# Altium footprint library DIN41612_32_2row_right_angle_father.PcbLib: 1 footprints
Each footprint in its own frame and in the unit in brackets; x right, y up, seen from the top. Pads: shape width x height; smd on the part's side, far side on the other; paste and mask are expansions set on the pad; w line width, h text height; cw(c..) or ccw(c..) is an arc to the next point about the centre after c.
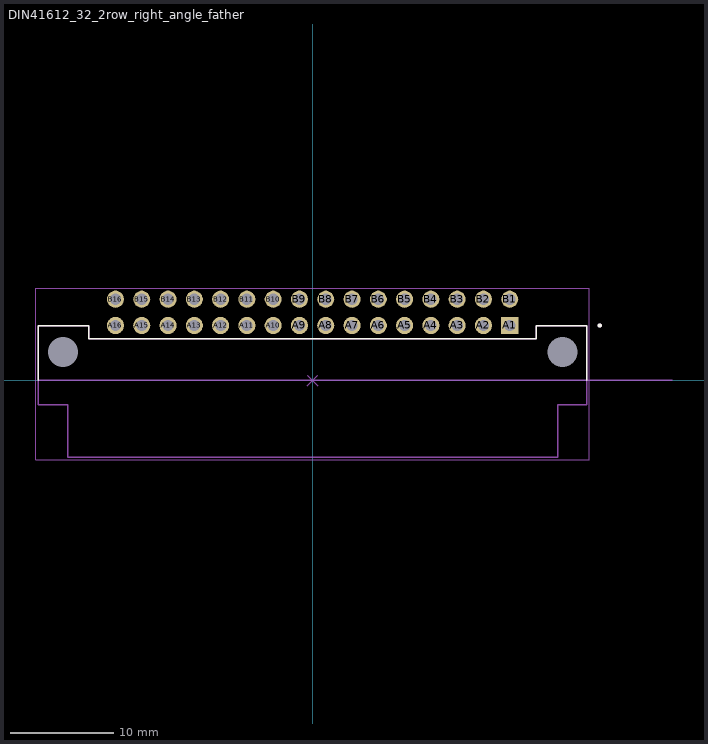
[diagram p0: the footprint, top view; thin cyan lines are the x and y axes]

## DIN41612_32_2row_right_angle_father [mm]
pads (34):
  rect 1.65x1.65 / inner round 1.65 / far side rect 1.65x1.65 hole 1.1: A1(19.05,5.3)
  round 1.65 hole 1.1: A2(16.51,5.3) A3(13.97,5.3) A4(11.43,5.3) A5(8.89,5.3) A6(6.35,5.3) A7(3.81,5.3) A8(1.27,5.3) A9(-1.27,5.3) A10(-3.81,5.3) A11(-6.35,5.3) A12(-8.89,5.3) A13(-11.43,5.3) A14(-13.97,5.3) A15(-16.51,5.3) A16(-19.05,5.3) B1(19.05,7.84) B2(16.51,7.84) B3(13.97,7.84) B4(11.43,7.84) B5(8.89,7.84) B6(6.35,7.84) B7(3.81,7.84) B8(1.27,7.84) B9(-1.27,7.84) B10(-3.81,7.84) B11(-6.35,7.84) B12(-8.89,7.84) B13(-11.43,7.84) B14(-13.97,7.84) B15(-16.51,7.84) B16(-19.05,7.84)
  round 0 hole 2.9 unplated: ""(-24.13,2.76) ""(24.13,2.76)
Top Overlay:
  circle w0.2: c27.75,5.3 r0.1
  lines w0.15: -26.5,0 -26.5,5.26 -21.63,5.26 -21.63,4.01 21.63,4.01 21.63,5.26 26.5,5.26 26.5,0
Mechanical 13:
  circle w0.2: c27.75,5.3 r0.1
  lines w0.127: 34.75,0 -26.5,0 ; -26.5,0 -26.5,5.26 -21.63,5.26 -21.63,4.01 21.63,4.01 21.63,5.26 26.5,5.26 26.5,-2.34 23.68,-2.34 23.68,-7.44 -23.68,-7.44 -23.68,-2.34 -26.5,-2.34 -26.5,0
  text "PCB EDGE" at 27.5,0.26 h1
Mechanical 15:
  lines w0.05: -26.75,-7.69 26.75,-7.69 26.75,8.915 -26.75,8.915 -26.75,-7.69
  lines w0.1: -0.508,-0.508 0.508,0.508 ; -0.508,0.508 0.508,-0.508
3D body "step_temp.STEP": height 6.84, standoff -2.94, extent -26.525,-7.285 26.535,8.185